# Altium footprint library JST_B2B.PcbLib: 1 footprints
Each footprint in its own frame and in the unit in brackets; x right, y up, seen from the top. Pads: shape width x height; smd on the part's side, far side on the other; paste and mask are expansions set on the pad; w line width, h text height; cw(c..) or ccw(c..) is an arc to the next point about the centre after c.
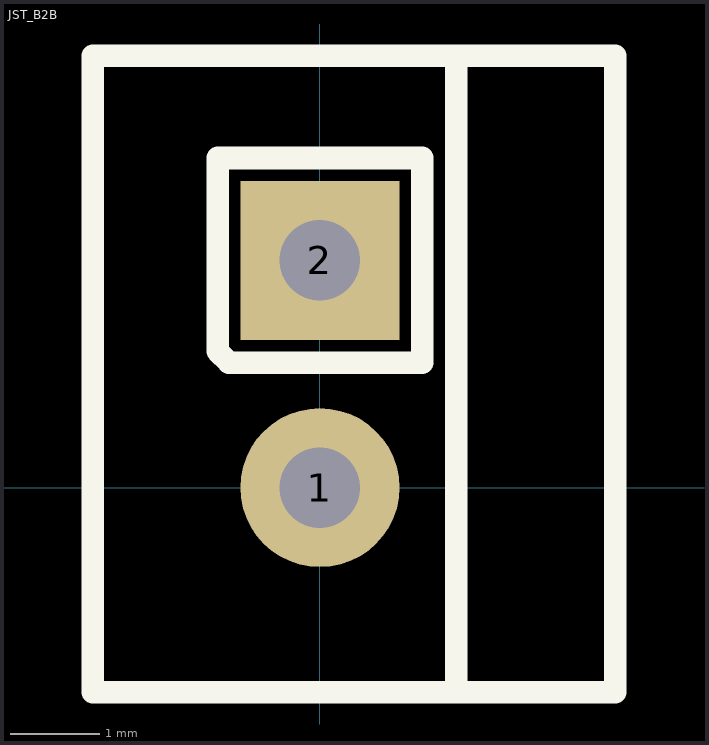
[diagram p0: the footprint, top view; thin cyan lines are the x and y axes]

## JST_B2B [mil]
pads (2):
  round 70 hole 35.43: 1(0,0)
  rect 70x70 hole 35.43: 2(0,100)
Top Overlay:
  lines w10: 60,-90 60,190 ; -100,-90 130,-90 130,190 -100,190 -100,-90 ; -45,60 -45,145 45,145 45,55 -40,55 -45,60
3D body "JST - XH - Thru - 2Pin - 2.5mm (Genuine).stp": height 284, standoff -118, extent -97.99,-91.21 132.01,191.21